# Altium schematic symbol library SP3232EEN-L.SchLib: 2 symbols
Pins are listed as number, name and electrical type; pins without a type are passive.

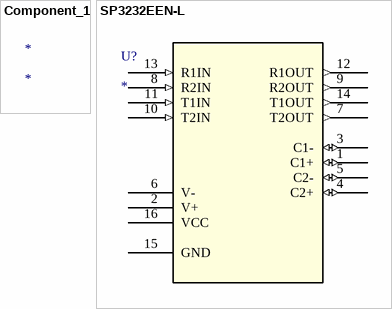
[diagram p0: symbols Component_1 to SP3232EEN-L]

## Component_1
designator *

## SP3232EEN-L
designator U?
No Description Available; Mfr_Name: MaxLinear; RefDes: RefDes; Type: Type
footprint NSOIC-16_MXL
pins: 1 C1+ (io), 2 V+ (power), 3 C1- (io), 4 C2+ (io), 5 C2- (io), 6 V- (power), 7 T2OUT (out), 8 R2IN (in), 9 R2OUT (out), 10 T2IN (in), 11 T1IN (in), 12 R1OUT (out), 13 R1IN (in), 14 T1OUT (out), 15 GND (power), 16 VCC (power)